# Altium footprint library clock.PcbLib: 69 footprints (part 2 of 5)
Each footprint in its own frame and in the unit in brackets; x right, y up, seen from the top. Pads: shape width x height; smd on the part's side, far side on the other; paste and mask are expansions set on the pad; w line width, h text height; cw(c..) or ccw(c..) is an arc to the next point about the centre after c.
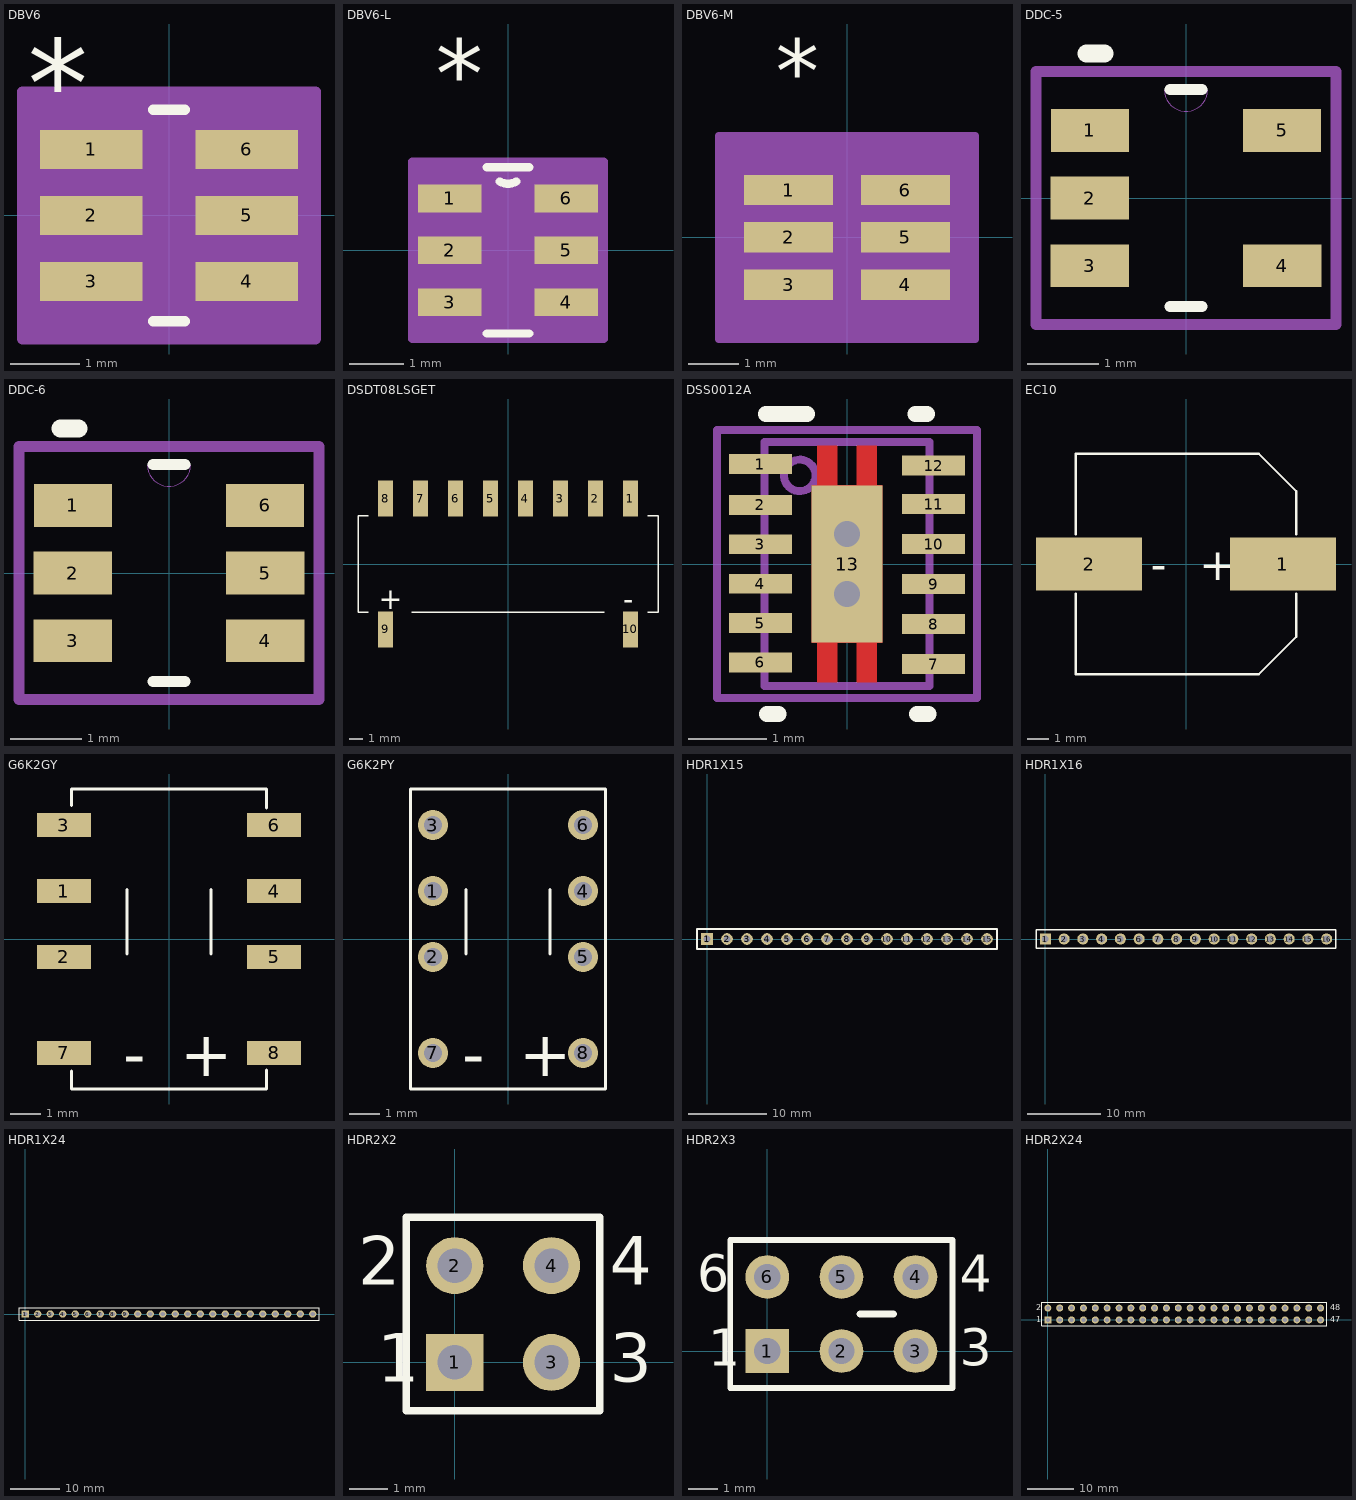
[diagram p1: the footprints below, top view; thin cyan lines are the x and y axes]

## DBV6 [mil]
pads (6):
  rect 58x22 smd: 1(-44,37.4) 2(-44,0) 3(-44,-37.4) 4(44,-37.4) 5(44,0) 6(44,37.4)
Top Overlay:
  lines w6: -8.91,-60 8.91,-60 ; -8.91,60 8.91,60
  text "*" at -80,50 h50
Mechanical 13:
  lines w0: -12,60 ccw(c0,60) 12,60
Mechanical 15:
  region: 83,-70 -83,-70 -83,70 83,70
  lines w6: -83,-70 83,-70 83,70 -83,70 -83,-70

## DBV6-L [mil]
pads (6):
  rect 46x20 smd: 1(-42,37.4) 2(-42,0) 3(-42,-37.4) 4(42,-37.4) 5(42,0) 6(42,37.4)
Top Overlay:
  lines w6: -15.41,-60 15.41,-60 ; -15.41,60 15.41,60 ; -6.1,49.66 ccw(c0,60) 6.1,49.66
  text "*" at -52,102.4 h50
Mechanical 13:
  lines w0: -12,60 ccw(c0,60) 12,60
Mechanical 15:
  region: 69,-64 -69,-64 -69,64 69,64
  lines w6: -69,-64 69,-64 69,64 -69,64 -69,-64

## DBV6-M [mil]
pads (6):
  rect 70x24 smd: 1(-46,37.4) 2(-46,0) 3(-46,-37.4) 4(46,-37.4) 5(46,0) 6(46,37.4)
Top Overlay:
  text "*" at -56,106.4 h50
Mechanical 13:
  lines w0: -12,60 ccw(c0,60) 12,60
  text "*" at -56,106.4 h50
Mechanical 15:
  region: 101,-80 -101,-80 -101,80 101,80
  lines w6: -101,-80 101,-80 101,80 -101,80 -101,-80

## DDC-5 [mm]
pads (5):
  rect 1.1x0.6 smd: 1(-1.351,0.95) 2(-1.351,0) 3(-1.351,-0.95) 4(1.351,-0.95) 5(1.351,0.95)
Top Overlay:
  lines w0.152: -0.226,-1.524 0.226,-1.524 ; -0.226,1.524 0.226,1.524
  lines w0.254: -1.397,2.032 -1.143,2.032
Mechanical 13:
  lines w0: -0.305,1.524 ccw(c0,1.524) 0.305,1.524
Mechanical 15:
  lines w0.152: -2.108,-1.778 -2.108,1.778 2.108,1.778 2.108,-1.778 -2.108,-1.778

## DDC-6 [mm]
pads (6):
  rect 1.1x0.6 smd: 1(-1.351,0.95) 2(-1.351,0) 3(-1.351,-0.95) 4(1.351,-0.95) 5(1.351,0) 6(1.351,0.95)
Top Overlay:
  lines w0.152: -0.226,-1.524 0.226,-1.524 ; -0.226,1.524 0.226,1.524
  lines w0.254: -1.524,2.032 -1.27,2.032
Mechanical 13:
  lines w0: -0.305,1.524 ccw(c0,1.524) 0.305,1.524
Mechanical 15:
  lines w0.152: -2.108,-1.778 2.108,-1.778 2.108,1.778 -2.108,1.778 -2.108,-1.778

## DSDT08LSGET [mm]
pads (10):
  rect 1.1x2.6 smd: 1(8.89,4.75) 2(6.35,4.75) 3(3.81,4.75) 4(1.27,4.75) 5(-1.27,4.75) 6(-3.81,4.75) 7(-6.35,4.75) 8(-8.89,4.75) 9(-8.89,-4.75) 10(8.89,-4.75)
Top Overlay:
  lines w0.1: -10.16,-3.5 -10.9,-3.5 -10.9,3.5 -10.16,3.5 ; -7.001,-3.5 7.001,-3.5 ; 10.16,-3.5 10.9,-3.5 10.9,3.5 10.16,3.5
  text "+" at -9.398,-3.302 h1.52
  text "-" at 8.382,-3.302 h1.52

## DSS0012A [mm]
pads (13):
  rect 0.8x0.25 smd paste+0 mask+0.051: 1(-1.1,1.27) 2(-1.1,0.75) 3(-1.1,0.25) 4(-1.1,-0.25) 5(-1.1,-0.75) 6(-1.1,-1.25) 7(1.1,-1.27) 8(1.1,-0.762) 9(1.1,-0.254) 10(1.1,0.254) 11(1.1,0.762) 12(1.1,1.25)
  rect 0.9x2 smd paste-0.45 mask+0.051: 13(0,0)
via 0,0.381 diameter 0.66 hole 0.33
via 0,-0.381 diameter 0.66 hole 0.33
Top Layer:
  region: -0.125,-1.5 -0.375,-1.5 -0.375,-1 -0.45,-1 -0.45,1 -0.375,1 -0.375,1.5 -0.125,1.5 -0.125,1 0.125,1 0.125,1.5 0.375,1.5 0.375,1 0.45,1 0.45,-1 0.375,-1 0.375,-1.5 0.125,-1.5 0.125,-1 -0.125,-1
Top Overlay:
  lines w0.2: -1.033,1.905 -0.508,1.905 ; -1.016,-1.905 -0.866,-1.905 ; 0.866,1.905 1.016,1.905 ; 0.889,-1.905 1.039,-1.905
Top Paste:
  region: -0.427,0.895 -0.427,-0.894 0.427,-0.894 0.427,0.895
Top Solder:
  region: -0.125,-1.551 -0.375,-1.551 -0.385,-1.55 -0.394,-1.547 -0.403,-1.542 -0.411,-1.536 -0.417,-1.528 -0.422,-1.519 -0.425,-1.51 -0.426,-1.5 -0.426,-1.051 -0.45,-1.051 -0.46,-1.05 -0.469,-1.047 -0.478,-1.042 -0.486,-1.036 -0.492,-1.028 -0.497,-1.019 -0.5,-1.01 -0.501,-1 -0.501,1 -0.5,1.01 -0.497,1.019 -0.492,1.028 -0.486,1.036 -0.478,1.042 -0.469,1.047 -0.46,1.05 -0.45,1.051 -0.426,1.051 -0.426,1.5 -0.425,1.51 -0.422,1.519 -0.417,1.528 -0.411,1.536 -0.403,1.542 -0.394,1.547 -0.385,1.55 -0.375,1.551 -0.125,1.551 -0.115,1.55 -0.106,1.547 -0.097,1.542 -0.089,1.536 -0.083,1.528 -0.078,1.519 -0.075,1.51 -0.074,1.5 -0.074,1.051 0.074,1.051 0.074,1.5 0.075,1.51 0.078,1.519 0.083,1.528 0.089,1.536 0.097,1.542 0.106,1.547 0.115,1.55 0.125,1.551 0.375,1.551 0.385,1.55 0.394,1.547 0.403,1.542 0.411,1.536 0.417,1.528 0.422,1.519 0.425,1.51 0.426,1.5 0.426,1.051 0.45,1.051 0.46,1.05 0.469,1.047 0.478,1.042 0.486,1.036 0.492,1.028 0.497,1.019 0.5,1.01 0.501,1 0.501,-1 0.5,-1.01 0.497,-1.019 0.492,-1.028 0.486,-1.036 0.478,-1.042 0.469,-1.047 0.46,-1.05 0.45,-1.051 0.426,-1.051 0.426,-1.5 0.425,-1.51 0.422,-1.519 0.417,-1.528 0.411,-1.536 0.403,-1.542 0.394,-1.547 0.385,-1.55 0.375,-1.551 0.125,-1.551 0.115,-1.55 0.106,-1.547 0.097,-1.542 0.089,-1.536 0.083,-1.528 0.078,-1.519 0.075,-1.51 0.074,-1.5 0.074,-1.051 -0.074,-1.051 -0.074,-1.5 -0.075,-1.51 -0.078,-1.519 -0.083,-1.528 -0.089,-1.536 -0.097,-1.542 -0.106,-1.547 -0.115,-1.55
Mechanical 13:
  circle w0.1: c-0.6,1.125 r0.2
  lines w0.1: -1.05,-1.55 1.05,-1.55 1.05,1.55 -1.05,1.55 -1.05,-1.55
Mechanical 15:
  lines w0.1: -1.651,-1.7 -1.651,1.7 1.651,1.7 1.651,-1.7 -1.651,-1.7

## EC10 [mm]
pads (2):
  rect 5x2.5 smd: 1(4.572,0) 2(-4.572,0)
Top Overlay:
  lines w0.1: -5.2,-1.397 -5.2,-5.2 3.436,-5.2 5.2,-3.436 5.2,-1.397 ; -5.2,1.397 -5.2,5.2 3.436,5.2 5.2,3.436 5.2,1.397
  text "-" at -1.651,-0.762 h1.52
  text "+" at 0.635,-0.762 h1.52

## G6K2GY [mm]
pads (8):
  rect 1.8x0.8 smd: 1(-3.5,1.6) 2(-3.5,-0.6) 3(-3.5,3.8) 4(3.5,1.6) 5(3.5,-0.6) 6(3.5,3.8) 7(-3.5,-3.8) 8(3.5,-3.8)
Top Overlay:
  lines w0.1: -3.25,-4.393 -3.25,-5 3.25,-5 3.25,-4.37 ; -3.25,4.445 -3.25,5 3.25,5 3.25,4.37 ; -1.397,-0.508 -1.397,1.651 ; 1.397,-0.508 1.397,1.651
  text "+" at 0.381,-4.572 h1.52
  text "-" at -1.524,-4.572 h1.52

## G6K2PY [mm]
pads (8):
  round 1 hole 0.6: 1(-2.504,1.6) 2(-2.504,-0.6) 3(-2.504,3.8) 4(2.504,1.6) 5(2.504,-0.6) 6(2.504,3.8) 7(-2.504,-3.8) 8(2.504,-3.8)
Top Overlay:
  lines w0.1: -1.397,-0.508 -1.397,1.651 ; 1.397,-0.508 1.397,1.651 ; -3.25,-5 3.25,-5 3.25,-4.37 3.25,5 -3.25,5 -3.25,-4.393 -3.25,-5
  text "+" at 0.381,-4.572 h1.52
  text "-" at -1.524,-4.572 h1.52

## HDR1X15 [mm] "Connector; Header; 15 Position"
pads (15):
  rect 1.5x1.5 hole 0.9: 1(0,0)
  round 1.5 hole 0.9: 2(2.54,0) 3(5.08,0) 4(7.62,0) 5(10.16,0) 6(12.7,0) 7(15.24,0) 8(17.78,0) 9(20.32,0) 10(22.86,0) 11(25.4,0) 12(27.94,0) 13(30.48,0) 14(33.02,0) 15(35.56,0)
Top Overlay:
  lines w0.2: -1.27,-1.27 36.83,-1.27 36.83,1.27 0.635,1.27 -1.27,1.27 -1.27,-1.27

## HDR1X16 [mm] "Connector; Header; 16 Position"
pads (16):
  rect 1.5x1.5 hole 0.9: 1(0,0)
  round 1.5 hole 0.9: 2(2.54,0) 3(5.08,0) 4(7.62,0) 5(10.16,0) 6(12.7,0) 7(15.24,0) 8(17.78,0) 9(20.32,0) 10(22.86,0) 11(25.4,0) 12(27.94,0) 13(30.48,0) 14(33.02,0) 15(35.56,0) 16(38.1,0)
Top Overlay:
  lines w0.2: -1.27,-1.27 -1.27,1.27 0.635,1.27 39.37,1.27 39.37,-1.27 -1.27,-1.27

## HDR1X24 [mm] "Connector; Header; 24 Position"
pads (24):
  rect 1.5x1.5 hole 0.9: 1(0,0)
  round 1.5 hole 0.9: 2(2.54,0) 3(5.08,0) 4(7.62,0) 5(10.16,0) 6(12.7,0) 7(15.24,0) 8(17.78,0) 9(20.32,0) 10(22.86,0) 11(25.4,0) 12(27.94,0) 13(30.48,0) 14(33.02,0) 15(35.56,0) 16(38.1,0) 17(40.64,0) 18(43.18,0) 19(45.72,0) 20(48.26,0) 21(50.8,0) 22(53.34,0) 23(55.88,0) 24(58.42,0)
Top Overlay:
  lines w0.2: -1.27,-1.27 -1.27,1.27 0.635,1.27 59.69,1.27 59.69,-1.27 -1.27,-1.27

## HDR2X2 [mm]
pads (4):
  rect 1.5x1.5 hole 0.9: 1(0,0)
  round 1.5 hole 0.9: 2(0,2.54) 3(2.54,0) 4(2.54,2.54)
Top Overlay:
  lines w0.2: -1.27,-1.27 3.81,-1.27 3.81,3.81 -1.27,3.81 -1.27,-1.27
  text "3" at 4.064,-0.508 h1.27
  text "4" at 4.064,2.032 h1.27
  text "2" at -2.54,2.032 h1.27
  text "1" at -2.032,-0.508 h1.27

## HDR2X3 [mm]
pads (6):
  rect 1.5x1.5 hole 0.9: 1(0,0)
  round 1.5 hole 0.9: 2(2.54,0) 3(5.08,0) 4(5.08,2.54) 5(2.54,2.54) 6(0,2.54)
Top Overlay:
  lines w0.2: 1.482,-1.27 6.35,-1.27 ; 6.35,-1.27 -1.27,-1.27 -1.27,3.81 6.35,3.81 6.35,-1.27
  lines w0.254: 3.175,1.27 4.318,1.27
  text "1" at -2.032,-0.508 h1.27
  text "6" at -2.413,2.032 h1.27
  text "3" at 6.604,-0.508 h1.27
  text "4" at 6.604,2.032 h1.27

## HDR2X24 [mm] "Connector; Header; 24x2 Position"
pads (48):
  rect 1.5x1.5 hole 0.9: 1(0,0)
  round 1.5 hole 0.9: 2(0,2.54) 3(2.54,0) 4(2.54,2.54) 5(5.08,0) 6(5.08,2.54) 7(7.62,0) 8(7.62,2.54) 9(10.16,0) 10(10.16,2.54) 11(12.7,0) 12(12.7,2.54) 13(15.24,0) 14(15.24,2.54) 15(17.78,0) 16(17.78,2.54) 17(20.32,0) 18(20.32,2.54) 19(22.86,0) 20(22.86,2.54) 21(25.4,0) 22(25.4,2.54) 23(27.94,0) 24(27.94,2.54) 25(30.48,0) 26(30.48,2.54) 27(33.02,0) 28(33.02,2.54) 29(35.56,0) 30(35.56,2.54) 31(38.1,0) 32(38.1,2.54) 33(40.64,0) 34(40.64,2.54) 35(43.18,0) 36(43.18,2.54) 37(45.72,0) 38(45.72,2.54) 39(48.26,0) 40(48.26,2.54) 41(50.8,0) 42(50.8,2.54) 43(53.34,0) 44(53.34,2.54) 45(55.88,0) 46(55.88,2.54) 47(58.42,0) 48(58.42,2.54)
Top Overlay:
  lines w0.2: -1.27,-1.27 -1.27,3.81 59.69,3.81 59.69,-1.27 -1.27,-1.27
  text "47" at 60.452,-0.508 h1.27
  text "48" at 60.452,2.032 h1.27
  text "1" at -2.54,-0.508 h1.27
  text "2" at -2.54,2.032 h1.27